# Altium footprint library CAPACITOR.PcbLib: 23 footprints (part 1 of 2)
Each footprint in its own frame and in the unit in brackets; x right, y up, seen from the top. Pads: shape width x height; smd on the part's side, far side on the other; paste and mask are expansions set on the pad; w line width, h text height; cw(c..) or ccw(c..) is an arc to the next point about the centre after c.
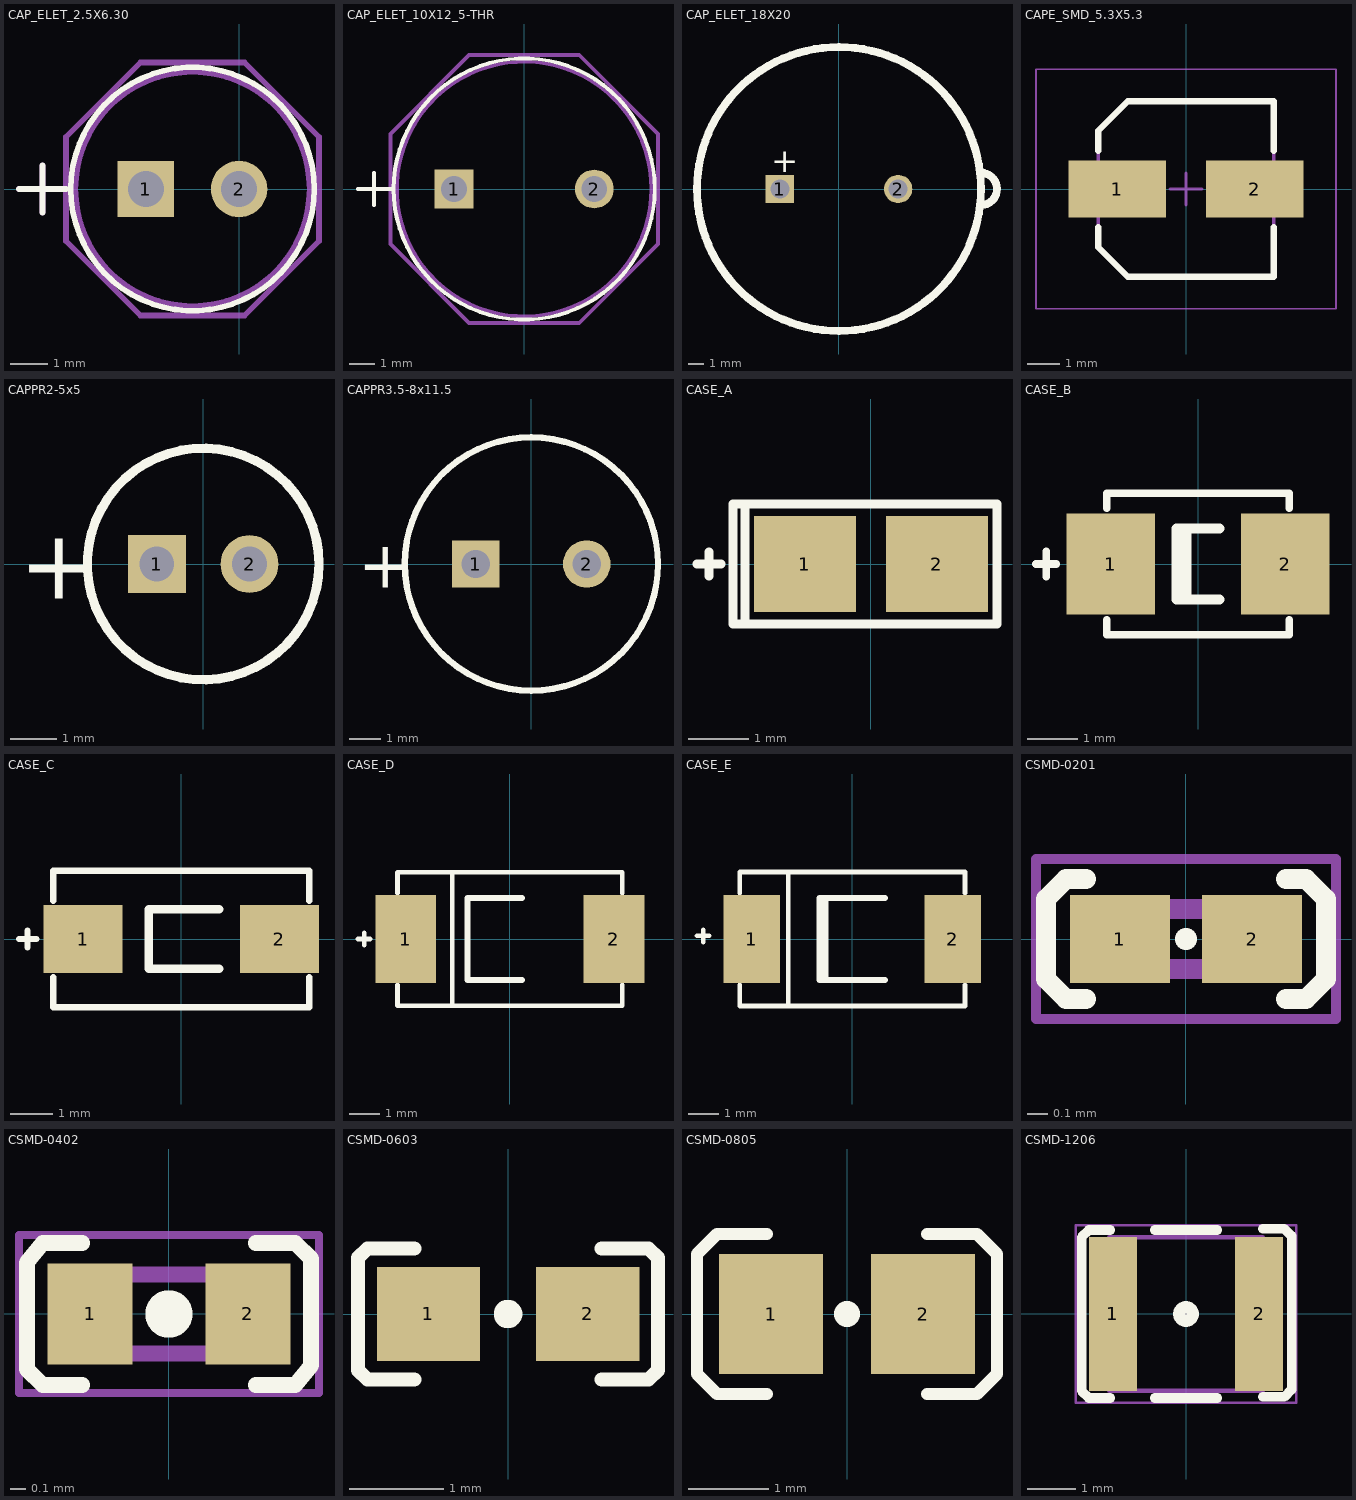
[diagram p0: the footprints below, top view; thin cyan lines are the x and y axes]

## CAP_ELET_2.5X6.30 [mil] "Aluminum Electrolytic Capacitors Radial"
height 480.31
pads (2):
  rect 60x60 hole 38 mask-1000: 1(-99,0)
  round 60 hole 38 mask-1000: 2(0,0)
Top Overlay:
  circle w6: c-49.5,0 r129.5
  lines w6: -234,0 -184,0 ; -209,-25 -209,25
Top Paste:
  region: -129,-30 -69,-30 -69,30 -129,30
  region: 0,-30.26 7.83,-29.23 15.13,-26.2 21.4,-21.4 26.2,-15.13 29.23,-7.83 30.26,0 29.23,7.83 26.2,15.13 21.4,21.4 15.13,26.2 7.83,29.23 0,30.26 -7.83,29.23 -15.13,26.2 -21.4,21.4 -26.2,15.13 -29.23,7.83 -30.26,0 -29.23,-7.83 -26.2,-15.13 -21.4,-21.4 -15.13,-26.2 -7.83,-29.23
Top Solder:
  region: -129,-30 -69,-30 -69,30 -129,30
  region: 0,-30.26 7.83,-29.23 15.13,-26.2 21.4,-21.4 26.2,-15.13 29.23,-7.83 30.26,0 29.23,7.83 26.2,15.13 21.4,21.4 15.13,26.2 7.83,29.23 0,30.26 -7.83,29.23 -15.13,26.2 -21.4,21.4 -26.2,15.13 -29.23,7.83 -30.26,0 -29.23,-7.83 -26.2,-15.13 -21.4,-21.4 -15.13,-26.2 -7.83,-29.23
Bottom Solder:
  region: -129,-30 -69,-30 -69,30 -129,30
  region: 0,-30.26 7.83,-29.23 15.13,-26.2 21.4,-21.4 26.2,-15.13 29.23,-7.83 30.26,0 29.23,7.83 26.2,15.13 21.4,21.4 15.13,26.2 7.83,29.23 0,30.26 -7.83,29.23 -15.13,26.2 -21.4,21.4 -26.2,15.13 -29.23,7.83 -30.26,0 -29.23,-7.83 -26.2,-15.13 -21.4,-21.4 -15.13,-26.2 -7.83,-29.23
Mechanical 1:
  circle w1: c-49.5,0 r124.5
  lines w1: -234,0 -184,0 ; -209,-25 -209,25
Mechanical 16:
  circle w6: c-49.5,0 r124.5
  lines w6: -234,0 -184,0 ; -209,-25 -209,25 ; -184,-55.38 -104.88,-134.5 5.88,-134.5 85,-55.38 85,55.38 5.88,134.5 -104.88,134.5 -184,55.38 -184,-55.38
3D body "PCAP_63x112.step": height 440.98, standoff -184.02, extent -173.99,-124.37 74.99,124.38

## CAP_ELET_10X12_5-THR [mil] "CAP ELET RADIAL PTH 10X12,5X5"
height 492.13
pads (2):
  rect 60x60 hole 40 mask-1000: 1(-108.5,0)
  round 60 hole 40 mask-1000: 2(108.5,0)
Top Overlay:
  circle w6: c0,0 r202
  lines w6: -257,0 -207,0 ; -232,-25 -232,25
Top Paste:
  region: 108.5,-30.26 116.33,-29.23 123.63,-26.2 129.9,-21.4 134.71,-15.13 137.73,-7.83 138.76,0 137.73,7.83 134.71,15.13 129.9,21.4 123.63,26.2 116.33,29.23 108.5,30.26 100.67,29.23 93.37,26.2 87.1,21.4 82.3,15.13 79.27,7.83 78.24,0 79.27,-7.83 82.3,-15.13 87.1,-21.4 93.37,-26.2 100.67,-29.23
  region: -138.5,-30 -78.5,-30 -78.5,30 -138.5,30
Top Solder:
  region: 108.5,-30.26 116.33,-29.23 123.63,-26.2 129.9,-21.4 134.71,-15.13 137.73,-7.83 138.76,0 137.73,7.83 134.71,15.13 129.9,21.4 123.63,26.2 116.33,29.23 108.5,30.26 100.67,29.23 93.37,26.2 87.1,21.4 82.3,15.13 79.27,7.83 78.24,0 79.27,-7.83 82.3,-15.13 87.1,-21.4 93.37,-26.2 100.67,-29.23
  region: -138.5,-30 -78.5,-30 -78.5,30 -138.5,30
Bottom Solder:
  region: 108.5,-30.26 116.33,-29.23 123.63,-26.2 129.9,-21.4 134.71,-15.13 137.73,-7.83 138.76,0 137.73,7.83 134.71,15.13 129.9,21.4 123.63,26.2 116.33,29.23 108.5,30.26 100.67,29.23 93.37,26.2 87.1,21.4 82.3,15.13 79.27,7.83 78.24,0 79.27,-7.83 82.3,-15.13 87.1,-21.4 93.37,-26.2 100.67,-29.23
  region: -138.5,-30 -78.5,-30 -78.5,30 -138.5,30
Mechanical 1:
  circle w1: c0,0 r197
  lines w1: -257,0 -207,0 ; -232,-25 -232,25
Mechanical 16:
  circle w6: c0,0 r197
  lines w6: -257,0 -207,0 ; -232,-25 -232,25 ; -207,-85.24 -207,85.24 -85.24,207 85.24,207 207,85.24 207,-85.24 85.24,-207 -85.24,-207 -207,-85.24
3D body "PCAP_10x12_5-THRU-ELECT.step": height 490, standoff -190, extent -197,-196.99 197.01,197

## CAP_ELET_18X20 [mm] "Cap Elect Radial; Body 18 x 20 mm (Dia.xH typ); Pin Spacing 7.5 mm"
height 20
pads (2):
  rect 1.8x1.8 hole 1.2: 1(-3.75,0)
  round 1.8 hole 1.2: 2(3.75,0)
Top Overlay:
  circle w0.5: c0,0 r9
  lines w0.5: 9.025,1.025 cw(c8.99,0) 9.046,-1.024
  text "+" at -4.3,1.075 h1.5
3D body "User Library-CAPAER_D180_L200_P075_W008X030.STEP": height 20.06, standoff -2.95, extent -9,-9 9.01,9

## CAPE_SMD_5.3X5.3 [mm] "Aluminum Electrolytic Capacitor, Body 5,30x5,30x5,80mm, IPC Low Density"
height 5.8
pads (2):
  rect 3.05x1.8 smd: 1(-2.15,0) 2(2.15,0)
Top Overlay:
  lines w0.2: -2.75,-1.2 -2.75,-1.825 -1.825,-2.75 2.75,-2.75 2.75,-1.2 ; -2.75,1.2 -2.75,1.825 -1.825,2.75 2.75,2.75 2.75,1.2
Mechanical 13:
  lines w0.1: -2.75,-1.825 -2.75,1.825 -1.825,2.75 2.75,2.75 2.75,-2.75 -1.825,-2.75 -2.75,-1.825
Mechanical 15:
  lines w0.05: -4.7,-3.75 4.7,-3.75 4.7,3.75 -4.7,3.75 -4.7,-3.75
  lines w0.1: -0.5,0 0.5,0 ; 0,-0.5 0,0.5
3D body "CAPE_5.3X5.3.step": height 5.8, standoff 0, extent -2.9,-2.75 2.9,2.75

## CAPPR2-5x5 [mm] "Capacitor, Electrolytic, Radial; Body 5 x 5 mm (Dia.xH typ); Pin Spacing 2 mm (typ)"
height 6
pads (2):
  rect 1.25x1.25 hole 0.75: 1(-1,0)
  round 1.25 hole 0.75: 2(1,0)
Top Overlay:
  circle w0.2: c0,0 r2.5
  text "+" at -3.975,-0.75 h1.5
3D body "CapacitorPTH5mm.step": height 11.53, standoff -3.27, extent -2.54,-2.54 2.511,2.511

## CAPPR3.5-8x11.5 [mm] "Capacitor, Electrolytic, Radial; Body 8 x 11.5 mm (Dia.xH typ); Pin Spacing 3.5 mm (typ)"
height 12.5
pads (2):
  rect 1.5x1.5 hole 0.9: 1(-1.75,0)
  round 1.5 hole 0.9: 2(1.75,0)
Top Overlay:
  circle w0.2: c0,0 r4
  text "+" at -5.475,-0.75 h1.5
3D body "User Library-Cap electro 8x11_5x3_5mm.STEP": height 12.03, standoff -3.48, extent -4.025,-4.025 4.026,4.026

## CASE_A [mm] "Chip Capacitor; Body 2.54 x 1.27 mm (LxW typ)"
height 1.66
pads (2):
  rect 1.7x1.6 smd: 1(-1.1,0) 2(1.1,0)
Top Overlay:
  lines w0.15: -2.9,0 -2.5,0 ; -2.7,-0.2 -2.7,0.2 ; -2.2,-1 2.1,-1 2.1,1 -2.2,1 ; -2.3,-1 -2.1,-1 -2.1,1 -2.3,1 -2.3,-1
3D body "CaseA.STEP": height 1.61, standoff 0, extent -1.595,-0.8 1.595,0.8

## CASE_B [mm] "Chip Capacitor; Body 3.81 x 1.27 mm (LxW typ)"
height 1.66
pads (2):
  rect 1.75x2 smd: 1(-1.725,0) 2(1.725,0)
Top Overlay:
  lines w0.15: -3.2,0 -2.8,0 ; -3,-0.25 -3,0.25 ; -1.8,-1.1 -1.8,-1.4 1.8,-1.4 1.8,-1.1 ; -1.8,1.1 -1.8,1.4 1.8,1.4 1.8,1.1
  lines w0.2: -0.233,-0.7 -0.233,0.7 ; 0.423,-0.7 -0.423,-0.7 -0.423,0.7 0.423,0.7
3D body "CaseB.STEP": height 1.91, standoff 0, extent -1.746,-1.4 1.746,1.4

## CASE_C [mm] "Chip Capacitor; Body 5.08 x 1.27 mm (LxW typ)"
height 1.66
pads (2):
  rect 1.85x1.6 smd: 1(-2.3,0) 2(2.3,0)
Top Overlay:
  lines w0.15: -3.8,0 -3.4,0 ; -3.6,-0.2 -3.6,0.2 ; -3,-0.9 -3,-1.6 3,-1.6 3,-0.9 ; -3,0.9 -3,1.6 3,1.6 3,0.9
  lines w0.2: 0.889,-0.7 -0.762,-0.7 -0.762,0.7 0.889,0.7
3D body "CaseC.STEP": height 2.51, standoff 0, extent -2.997,-1.6 2.997,1.6

## CASE_D [mm] "Chip Capacitor; Body 3.81 x 2.54 mm (LxW typ)"
height 1.66
pads (2):
  rect 2x2.9 smd: 1(-3.429,0) 2(3.429,0)
Top Overlay:
  lines w0.15: -5,0 -4.6,0 ; -4.8,-0.2 -4.8,0.2 ; -3.7,-1.5 -3.7,-2.2 3.7,-2.2 3.7,-1.5 ; -3.7,1.5 -3.7,2.2 3.7,2.2 3.7,1.5 ; -1.9,-2.2 -1.9,2.2
  lines w0.2: 0.406,-1.35 -1.397,-1.35 -1.397,1.35 0.406,1.35
3D body "CaseD.STEP": height 2.81, standoff 0, extent -3.647,-2.15 3.647,2.15

## CASE_E [mm] "Chip Capacitor; Body 5.08 x 2.54 mm (LxW typ)"
height 1.66
pads (2):
  rect 1.85x2.9 smd: 1(-3.3,0) 2(3.3,0)
Top Overlay:
  lines w0.15: -5.1,0.1 -4.7,0.1 ; -4.9,-0.1 -4.9,0.3 ; -3.7,-1.5 -3.7,-2.2 3.7,-2.2 3.7,-1.5 ; -3.7,1.5 -3.7,2.2 3.7,2.2 3.7,1.5 ; -2.1,-2.2 -2.1,2.2
  lines w0.2: -0.885,-1.35 -0.885,1.35 ; 1.075,-1.35 -1.075,-1.35 -1.075,1.35 1.075,1.35
3D body "CaseE.STEP": height 4.11, standoff 0, extent -3.647,-2.15 3.647,2.15

## CSMD-0201 [mm] "Chip Capacitor, 2-Leads, Body 0,60x0,30mm, IPC Medium Density"
height 0.33
pads (2):
  rect 0.5x0.44 smd: 1(-0.33,0) 2(0.33,0)
Top Overlay:
  circle w0.1: c0,0 r0.005
  lines w0.1: -0.5,-0.3 -0.6,-0.3 -0.7,-0.2 -0.7,0.2 -0.6,0.3 -0.5,0.3 ; 0.5,-0.3 0.6,-0.3 0.7,-0.2 0.7,0.2 0.6,0.3 0.5,0.3
Mechanical 13:
  lines w0.1: -0.3,-0.15 -0.3,0.15 0.3,0.15 0.3,-0.15 -0.3,-0.15
Mechanical 15:
  lines w0.05: -0.75,-0.4 -0.75,0.4 0.75,0.4 0.75,-0.4 -0.75,-0.4
3D body "CSMD-0201.step": height 0.33, standoff 0, extent -0.3,-0.15 0.3,0.15

## CSMD-0402 [mm] "Chip Capacitor, 2-Leads, Body 1,00x0,50mm, IPC Medium Density"
height 0.55
pads (2):
  rect 0.54x0.64 smd: 1(-0.5,0) 2(0.5,0)
Top Overlay:
  circle w0.2: c0,0 r0.05
  lines w0.1: -0.55,-0.45 -0.8,-0.45 -0.9,-0.35 -0.9,0.325 -0.8,0.45 -0.55,0.45 ; 0.55,-0.45 0.8,-0.45 0.9,-0.325 0.9,0.35 0.8,0.45 0.55,0.45
Mechanical 13:
  lines w0.1: -0.5,-0.25 0.5,-0.25 0.5,0.25 -0.5,0.25 -0.5,-0.25
Mechanical 15:
  lines w0.05: -0.95,-0.5 0.95,-0.5 0.95,0.5 -0.95,0.5 -0.95,-0.5
3D body "CSMD-0402.step": height 0.55, standoff 0, extent -0.5,-0.25 0.5,0.25

## CSMD-0603 [mm] "Chip Capacitor; Body 1.6 x 0.8 mm (LxW typ)"
height 1.35
pads (2):
  rect 1.1x1 smd: 1(-0.85,0) 2(0.85,0)
Top Overlay:
  circle w0.254: c0,0 r0.025
  lines w0.15: -1,-0.7 -1.5,-0.7 -1.6,-0.6 -1.6,0.6 -1.5,0.7 -1,0.7 ; 1,-0.7 1.5,-0.7 1.6,-0.6 1.6,0.6 1.5,0.7 1,0.7
3D body "capacitor_rnd_1500603n0r5c500.stp": height 0.8, standoff 0, extent -0.8,-0.4 0.8,0.4

## CSMD-0805 [mm] "Chip Resistor; Body 2.0 x 1.3 mm (LxW typ)"
height 0.65
pads (2):
  rect 1.3x1.5 smd: 1(-0.95,0) 2(0.95,0)
Top Overlay:
  circle w0.254: c0,0 r0.035
  lines w0.15: -1,-1 -1.625,-1 -1.875,-0.75 -1.875,0.75 -1.625,1 -1,1 ; 1,-1 1.625,-1 1.875,-0.75 1.875,0.75 1.625,1 1,1
3D body "capacitor_rnd1500805n0r5c500.stp": height 0.6, standoff 0, extent -1,-0.75 1,0.75

## CSMD-1206 [mm] "Chip Capacitor, 2-Leads, Body 3,20x2,40mm, IPC Medium Density"
height 1.4
pads (2):
  rect 1x3.2 smd: 1(-1.525,0) 2(1.525,0)
Top Overlay:
  circle w0.254: c0,0 r0.141
  lines w0.2: -1.575,-1.75 -2.025,-1.75 -2.175,-1.6 -2.175,1.6 -2.025,1.75 -1.575,1.75 ; -0.65,-1.75 0.65,-1.75 ; -0.65,1.75 0.65,1.75 ; 1.6,-1.725 2.05,-1.725 2.2,-1.575 2.2,1.625 2.05,1.775 1.6,1.775
Mechanical 13:
  lines w0.1: -1.6,-1.6 -1.6,1.6 1.6,1.6 1.6,-1.6 -1.6,-1.6
Mechanical 15:
  lines w0.05: -2.3,-1.85 -2.3,1.85 2.3,1.85 2.3,-1.85 -2.3,-1.85
3D body "CSMD-1206.step": height 1.4, standoff 0, extent -1.6,-1.6 1.6,1.6